# EAGLE library part 50281-020 (library con-aces-50281-series)
ACES CONNECTORS 50281 SERIES ACES Connecors 50281
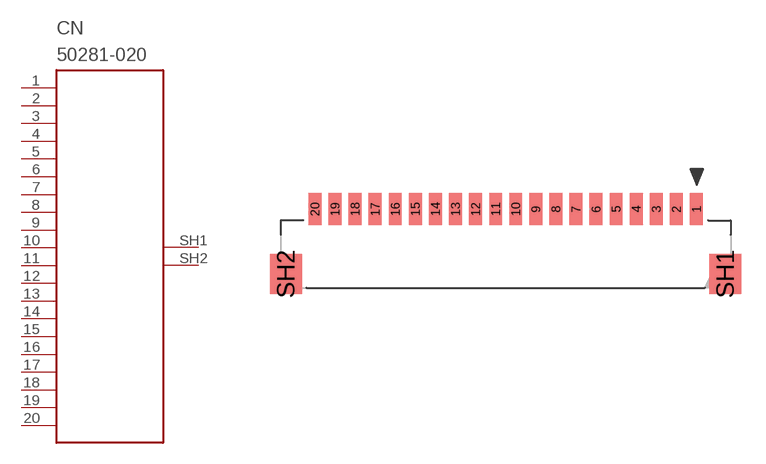
[diagram p13: symbol with the pads of 50281-020; footprint 50281-020]

Designator prefix CN

## 50281-020  [50281-020]
1  1
2  2
3  3
4  4
5  5
6  6
7  7
8  8
9  9
10  10
11  11
12  12
13  13
14  14
15  15
16  16
17  17
18  18
19  19
20  20
SH1  SH1
SH2  SH2

## Footprint 50281-020 (pad centres in mm)
smd 0.8 x 2: 1 11.875,1.9; 2 10.625,1.9; 3 9.375,1.9; 4 8.125,1.9; 5 6.875,1.9; 6 5.625,1.9; 7 4.375,1.9; 8 3.125,1.9; 9 1.875,1.9; 10 0.625,1.9; 11 -0.625,1.9; 12 -1.875,1.9; 13 -3.125,1.9; 14 -4.375,1.9; 15 -5.625,1.9; 16 -6.875,1.9; 17 -8.125,1.9; 18 -9.375,1.9; 19 -10.625,1.9; 20 -11.875,1.9
smd 2 x 2.5: SH1 13.675,-2.15; SH2 -13.675,-2.15